# Altium schematic symbol library Microcontrollers.SchLib: 20 symbols
Pins are listed as number, name and electrical type; pins without a type are passive.

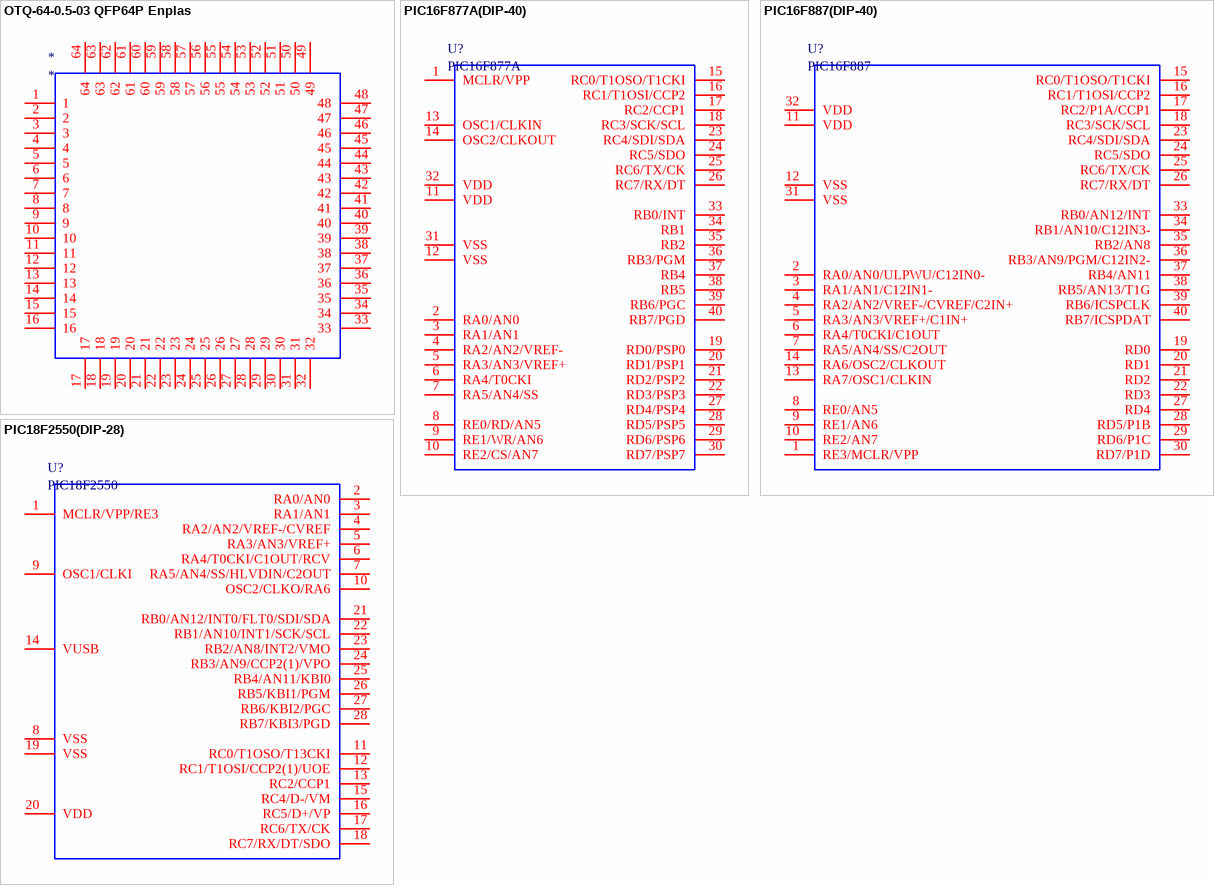
[diagram p0: symbols OTQ-64-0.5-03 QFP64P Enplas to PIC18F2550(DIP-28)]

## OTQ-64-0.5-03 QFP64P Enplas
designator *
footprint SOCKET_ENPLAS_OTQ_64-0.5-03
pins: 1, 2, 3, 4, 5, 6, 7, 8, 9, 10, 11, 12, 13, 14, 15, 16, 17, 18, 19, 20, 21, 22, 23, 24, 25, 26, 27, 28, 29, 30, 31, 32, 33, 34, 35, 36, 37, 38, 39, 40, 41, 42, 43, 44, 45, 46, 47, 48, 49, 50, 51, 52, 53, 54, 55, 56, 57, 58, 59, 60, 61, 62, 63, 64

## PIC16F877A(DIP-40)
designator U?, comment PIC16F877A
footprint DIP40_M02
pins: 1 MCLR/VPP, 2 RA0/AN0, 3 RA1/AN1, 4 RA2/AN2/VREF-, 5 RA3/AN3/VREF+, 6 RA4/T0CKI, 7 RA5/AN4/SS, 8 RE0/RD/AN5, 9 RE1/WR/AN6, 10 RE2/CS/AN7, 11 VDD, 12 VSS, 13 OSC1/CLKIN, 14 OSC2/CLKOUT, 15 RC0/T1OSO/T1CKI, 16 RC1/T1OSI/CCP2, 17 RC2/CCP1, 18 RC3/SCK/SCL, 19 RD0/PSP0, 20 RD1/PSP1, 21 RD2/PSP2, 22 RD3/PSP3, 23 RC4/SDI/SDA, 24 RC5/SDO, 25 RC6/TX/CK, 26 RC7/RX/DT, 27 RD4/PSP4, 28 RD5/PSP5, 29 RD6/PSP6, 30 RD7/PSP7, 31 VSS, 32 VDD, 33 RB0/INT, 34 RB1, 35 RB2, 36 RB3/PGM, 37 RB4, 38 RB5, 39 RB6/PGC, 40 RB7/PGD

## PIC16F887(DIP-40)
designator U?, comment PIC16F887
pins: 1 RE3/MCLR/VPP, 2 RA0/AN0/ULPWU/C12IN0-, 3 RA1/AN1/C12IN1-, 4 RA2/AN2/VREF-/CVREF/C2IN+, 5 RA3/AN3/VREF+/C1IN+, 6 RA4/T0CKI/C1OUT, 7 RA5/AN4/SS/C2OUT, 8 RE0/AN5, 9 RE1/AN6, 10 RE2/AN7, 11 VDD, 12 VSS, 13 RA7/OSC1/CLKIN, 14 RA6/OSC2/CLKOUT, 15 RC0/T1OSO/T1CKI, 16 RC1/T1OSI/CCP2, 17 RC2/P1A/CCP1, 18 RC3/SCK/SCL, 19 RD0, 20 RD1, 21 RD2, 22 RD3, 23 RC4/SDI/SDA, 24 RC5/SDO, 25 RC6/TX/CK, 26 RC7/RX/DT, 27 RD4, 28 RD5/P1B, 29 RD6/P1C, 30 RD7/P1D, 31 VSS, 32 VDD, 33 RB0/AN12/INT, 34 RB1/AN10/C12IN3-, 35 RB2/AN8, 36 RB3/AN9/PGM/C12IN2-, 37 RB4/AN11, 38 RB5/AN13/T1G, 39 RB6/ICSPCLK, 40 RB7/ICSPDAT

## PIC18F2550(DIP-28)
designator U?, comment PIC18F2550
footprint DIP28_M04
pins: 1 MCLR/VPP/RE3, 2 RA0/AN0, 3 RA1/AN1, 4 RA2/AN2/VREF-/CVREF, 5 RA3/AN3/VREF+, 6 RA4/T0CKI/C1OUT/RCV, 7 RA5/AN4/SS/HLVDIN/C2OUT, 8 VSS, 9 OSC1/CLKI, 10 OSC2/CLKO/RA6, 11 RC0/T1OSO/T13CKI, 12 RC1/T1OSI/CCP2(1)/UOE, 13 RC2/CCP1, 14 VUSB, 15 RC4/D-/VM, 16 RC5/D+/VP, 17 RC6/TX/CK, 18 RC7/RX/DT/SDO, 19 VSS, 20 VDD, 21 RB0/AN12/INT0/FLT0/SDI/SDA, 22 RB1/AN10/INT1/SCK/SCL, 23 RB2/AN8/INT2/VMO, 24 RB3/AN9/CCP2(1)/VPO, 25 RB4/AN11/KBI0, 26 RB5/KBI1/PGM, 27 RB6/KBI2/PGC, 28 RB7/KBI3/PGD

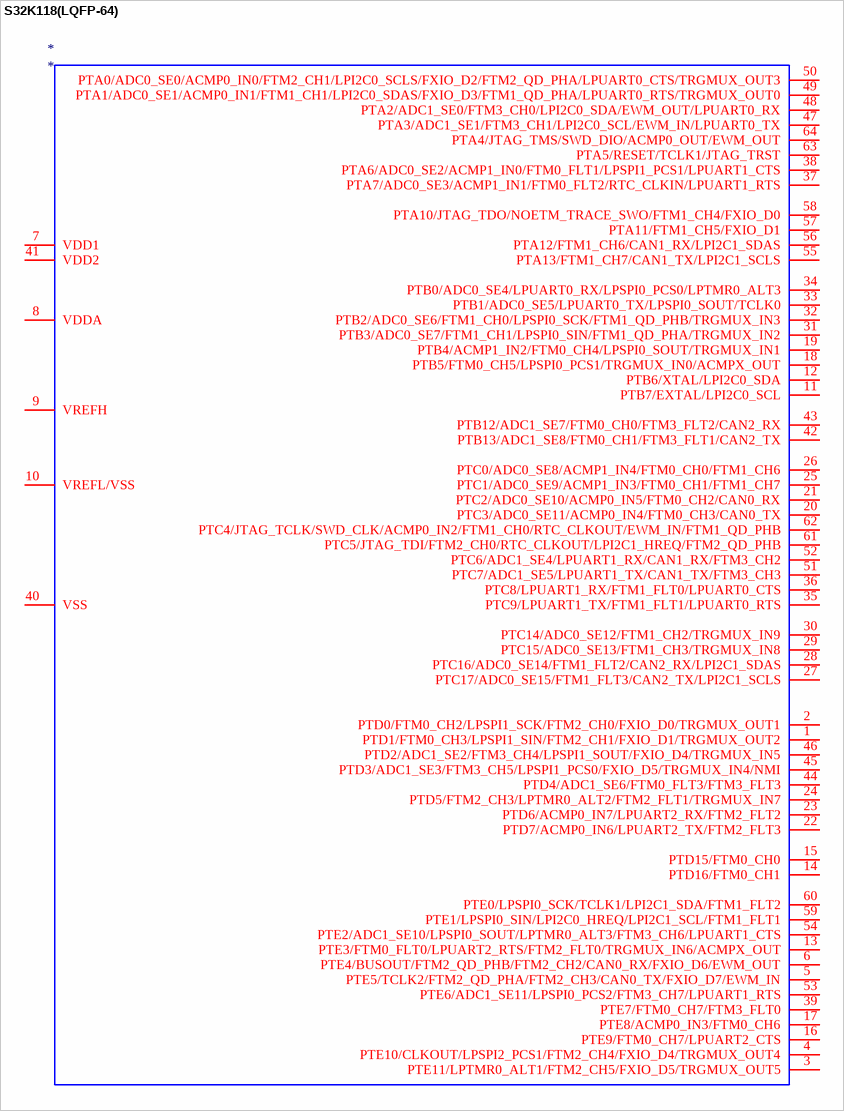
[diagram p1: symbol S32K118(LQFP-64)]

## S32K118(LQFP-64)
designator *
footprint LQFP064_FPT-64P-M03
pins: 1 PTD1/FTM0_CH3/LPSPI1_SIN/FTM2_CH1/FXIO_D1/TRGMUX_OUT2, 2 PTD0/FTM0_CH2/LPSPI1_SCK/FTM2_CH0/FXIO_D0/TRGMUX_OUT1, 3 PTE11/LPTMR0_ALT1/FTM2_CH5/FXIO_D5/TRGMUX_OUT5, 4 PTE10/CLKOUT/LPSPI2_PCS1/FTM2_CH4/FXIO_D4/TRGMUX_OUT4, 5 PTE5/TCLK2/FTM2_QD_PHA/FTM2_CH3/CAN0_TX/FXIO_D7/EWM_IN, 6 PTE4/BUSOUT/FTM2_QD_PHB/FTM2_CH2/CAN0_RX/FXIO_D6/EWM_OUT, 7 VDD1, 8 VDDA, 9 VREFH, 10 VREFL/VSS, 11 PTB7/EXTAL/LPI2C0_SCL, 12 PTB6/XTAL/LPI2C0_SDA, 13 PTE3/FTM0_FLT0/LPUART2_RTS/FTM2_FLT0/TRGMUX_IN6/ACMPX_OUT, 14 PTD16/FTM0_CH1, 15 PTD15/FTM0_CH0, 16 PTE9/FTM0_CH7/LPUART2_CTS, 17 PTE8/ACMP0_IN3/FTM0_CH6, 18 PTB5/FTM0_CH5/LPSPI0_PCS1/TRGMUX_IN0/ACMPX_OUT, 19 PTB4/ACMP1_IN2/FTM0_CH4/LPSPI0_SOUT/TRGMUX_IN1, 20 PTC3/ADC0_SE11/ACMP0_IN4/FTM0_CH3/CAN0_TX, 21 PTC2/ADC0_SE10/ACMP0_IN5/FTM0_CH2/CAN0_RX, 22 PTD7/ACMP0_IN6/LPUART2_TX/FTM2_FLT3, 23 PTD6/ACMP0_IN7/LPUART2_RX/FTM2_FLT2, 24 PTD5/FTM2_CH3/LPTMR0_ALT2/FTM2_FLT1/TRGMUX_IN7, 25 PTC1/ADC0_SE9/ACMP1_IN3/FTM0_CH1/FTM1_CH7, 26 PTC0/ADC0_SE8/ACMP1_IN4/FTM0_CH0/FTM1_CH6, 27 PTC17/ADC0_SE15/FTM1_FLT3/CAN2_TX/LPI2C1_SCLS, 28 PTC16/ADC0_SE14/FTM1_FLT2/CAN2_RX/LPI2C1_SDAS, 29 PTC15/ADC0_SE13/FTM1_CH3/TRGMUX_IN8, 30 PTC14/ADC0_SE12/FTM1_CH2/TRGMUX_IN9, 31 PTB3/ADC0_SE7/FTM1_CH1/LPSPI0_SIN/FTM1_QD_PHA/TRGMUX_IN2, 32 PTB2/ADC0_SE6/FTM1_CH0/LPSPI0_SCK/FTM1_QD_PHB/TRGMUX_IN3, 33 PTB1/ADC0_SE5/LPUART0_TX/LPSPI0_SOUT/TCLK0, 34 PTB0/ADC0_SE4/LPUART0_RX/LPSPI0_PCS0/LPTMR0_ALT3, 35 PTC9/LPUART1_TX/FTM1_FLT1/LPUART0_RTS, 36 PTC8/LPUART1_RX/FTM1_FLT0/LPUART0_CTS, 37 PTA7/ADC0_SE3/ACMP1_IN1/FTM0_FLT2/RTC_CLKIN/LPUART1_RTS, 38 PTA6/ADC0_SE2/ACMP1_IN0/FTM0_FLT1/LPSPI1_PCS1/LPUART1_CTS, 39 PTE7/FTM0_CH7/FTM3_FLT0, 40 VSS, 41 VDD2, 42 PTB13/ADC1_SE8/FTM0_CH1/FTM3_FLT1/CAN2_TX, 43 PTB12/ADC1_SE7/FTM0_CH0/FTM3_FLT2/CAN2_RX, 44 PTD4/ADC1_SE6/FTM0_FLT3/FTM3_FLT3, 45 PTD3/ADC1_SE3/FTM3_CH5/LPSPI1_PCS0/FXIO_D5/TRGMUX_IN4/NMI, 46 PTD2/ADC1_SE2/FTM3_CH4/LPSPI1_SOUT/FXIO_D4/TRGMUX_IN5, 47 PTA3/ADC1_SE1/FTM3_CH1/LPI2C0_SCL/EWM_IN/LPUART0_TX, 48 PTA2/ADC1_SE0/FTM3_CH0/LPI2C0_SDA/EWM_OUT/LPUART0_RX, 49 PTA1/ADC0_SE1/ACMP0_IN1/FTM1_CH1/LPI2C0_SDAS/FXIO_D3/FTM1_QD_PHA/LPUART0_RTS/TRGMUX_OUT0, 50 PTA0/ADC0_SE0/ACMP0_IN0/FTM2_CH1/LPI2C0_SCLS/FXIO_D2/FTM2_QD_PHA/LPUART0_CTS/TRGMUX_OUT3, 51 PTC7/ADC1_SE5/LPUART1_TX/CAN1_TX/FTM3_CH3, 52 PTC6/ADC1_SE4/LPUART1_RX/CAN1_RX/FTM3_CH2, 53 PTE6/ADC1_SE11/LPSPI0_PCS2/FTM3_CH7/LPUART1_RTS, 54 PTE2/ADC1_SE10/LPSPI0_SOUT/LPTMR0_ALT3/FTM3_CH6/LPUART1_CTS, 55 PTA13/FTM1_CH7/CAN1_TX/LPI2C1_SCLS, 56 PTA12/FTM1_CH6/CAN1_RX/LPI2C1_SDAS, 57 PTA11/FTM1_CH5/FXIO_D1, 58 PTA10/JTAG_TDO/NOETM_TRACE_SWO/FTM1_CH4/FXIO_D0, 59 PTE1/LPSPI0_SIN/LPI2C0_HREQ/LPI2C1_SCL/FTM1_FLT1, 60 PTE0/LPSPI0_SCK/TCLK1/LPI2C1_SDA/FTM1_FLT2, 61 PTC5/JTAG_TDI/FTM2_CH0/RTC_CLKOUT/LPI2C1_HREQ/FTM2_QD_PHB, 62 PTC4/JTAG_TCLK/SWD_CLK/ACMP0_IN2/FTM1_CH0/RTC_CLKOUT/EWM_IN/FTM1_QD_PHB, 63 PTA5/RESET/TCLK1/JTAG_TRST, 64 PTA4/JTAG_TMS/SWD_DIO/ACMP0_OUT/EWM_OUT

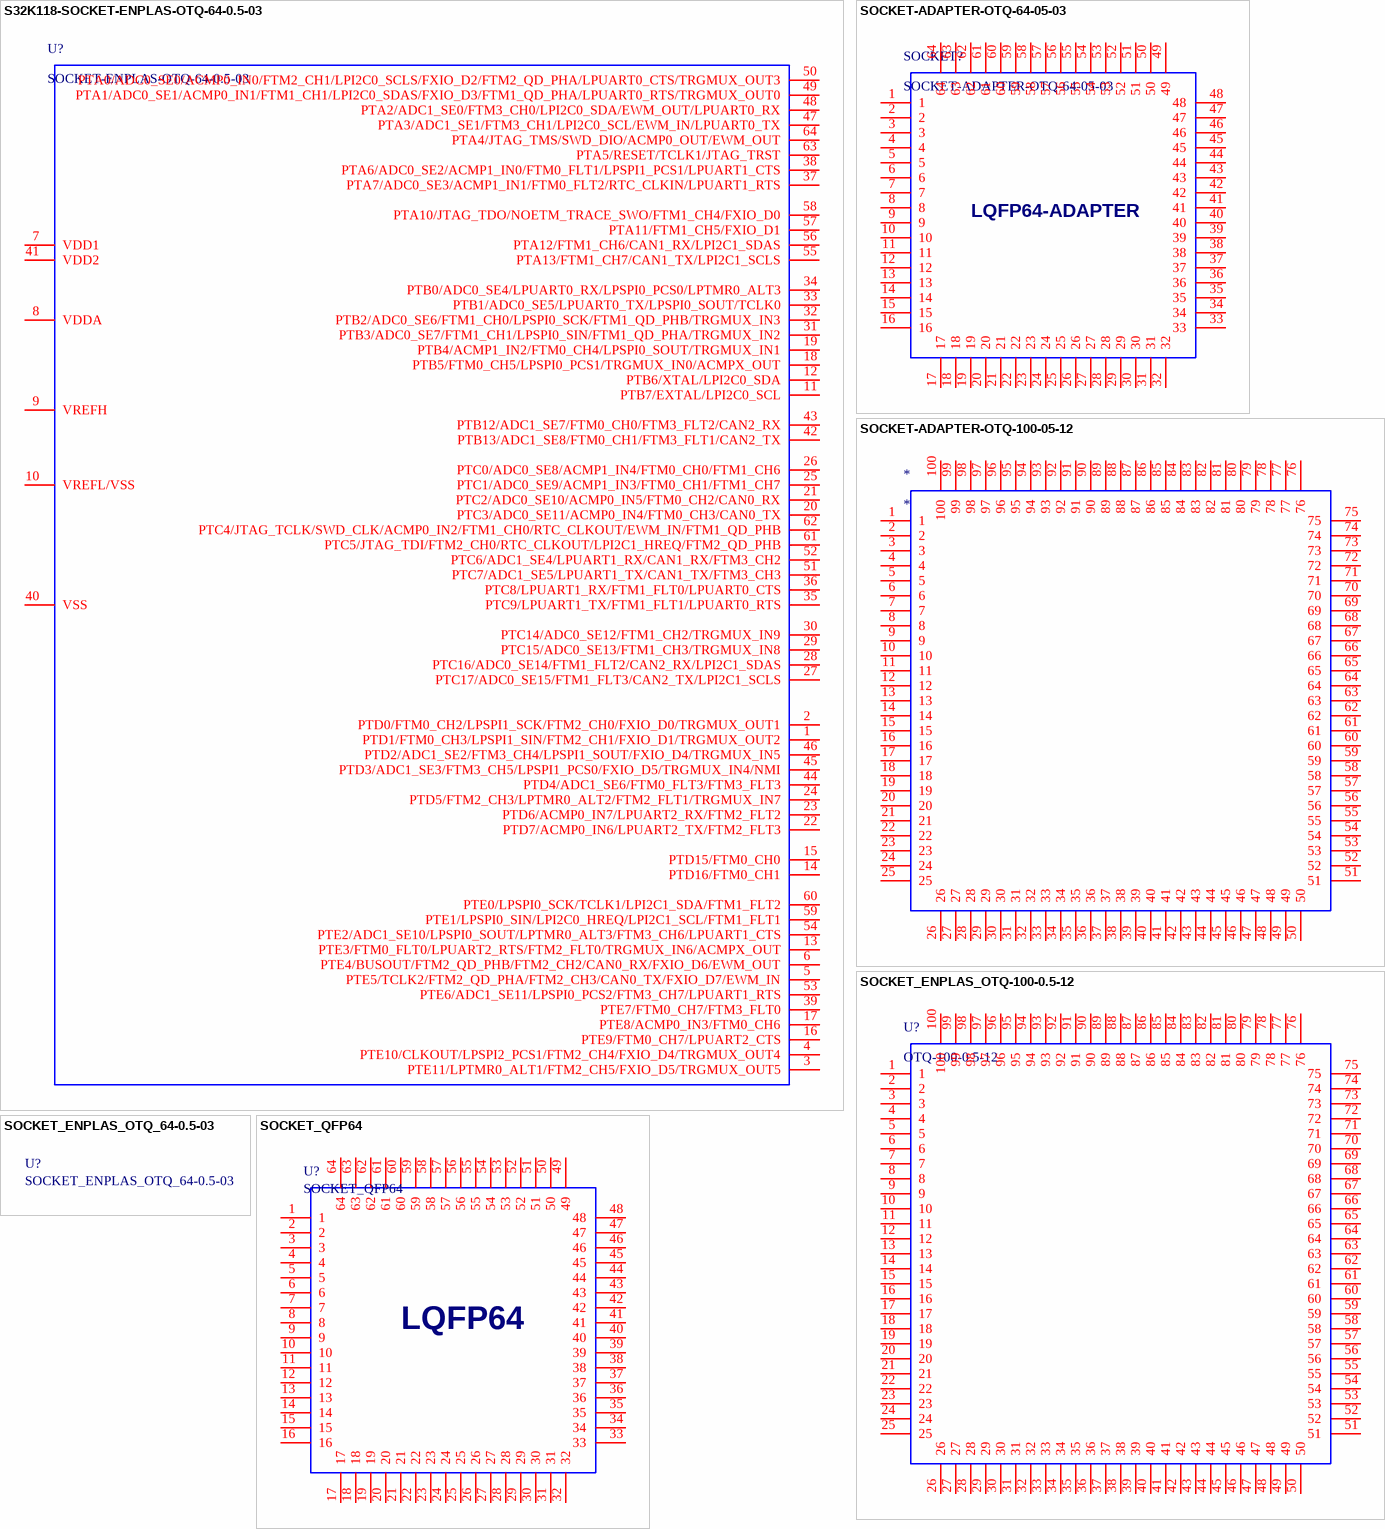
[diagram p2: symbols S32K118-SOCKET-ENPLAS-OTQ-64-0.5-03 to SOCKET_QFP64]

## S32K118-SOCKET-ENPLAS-OTQ-64-0.5-03
designator U?, comment SOCKET-ENPLAS-OTQ-64-0.5-03
footprint SOCKET-ADAPTER-OTQ-64-05-03
pins: 1 PTD1/FTM0_CH3/LPSPI1_SIN/FTM2_CH1/FXIO_D1/TRGMUX_OUT2, 2 PTD0/FTM0_CH2/LPSPI1_SCK/FTM2_CH0/FXIO_D0/TRGMUX_OUT1, 3 PTE11/LPTMR0_ALT1/FTM2_CH5/FXIO_D5/TRGMUX_OUT5, 4 PTE10/CLKOUT/LPSPI2_PCS1/FTM2_CH4/FXIO_D4/TRGMUX_OUT4, 5 PTE5/TCLK2/FTM2_QD_PHA/FTM2_CH3/CAN0_TX/FXIO_D7/EWM_IN, 6 PTE4/BUSOUT/FTM2_QD_PHB/FTM2_CH2/CAN0_RX/FXIO_D6/EWM_OUT, 7 VDD1, 8 VDDA, 9 VREFH, 10 VREFL/VSS, 11 PTB7/EXTAL/LPI2C0_SCL, 12 PTB6/XTAL/LPI2C0_SDA, 13 PTE3/FTM0_FLT0/LPUART2_RTS/FTM2_FLT0/TRGMUX_IN6/ACMPX_OUT, 14 PTD16/FTM0_CH1, 15 PTD15/FTM0_CH0, 16 PTE9/FTM0_CH7/LPUART2_CTS, 17 PTE8/ACMP0_IN3/FTM0_CH6, 18 PTB5/FTM0_CH5/LPSPI0_PCS1/TRGMUX_IN0/ACMPX_OUT, 19 PTB4/ACMP1_IN2/FTM0_CH4/LPSPI0_SOUT/TRGMUX_IN1, 20 PTC3/ADC0_SE11/ACMP0_IN4/FTM0_CH3/CAN0_TX, 21 PTC2/ADC0_SE10/ACMP0_IN5/FTM0_CH2/CAN0_RX, 22 PTD7/ACMP0_IN6/LPUART2_TX/FTM2_FLT3, 23 PTD6/ACMP0_IN7/LPUART2_RX/FTM2_FLT2, 24 PTD5/FTM2_CH3/LPTMR0_ALT2/FTM2_FLT1/TRGMUX_IN7, 25 PTC1/ADC0_SE9/ACMP1_IN3/FTM0_CH1/FTM1_CH7, 26 PTC0/ADC0_SE8/ACMP1_IN4/FTM0_CH0/FTM1_CH6, 27 PTC17/ADC0_SE15/FTM1_FLT3/CAN2_TX/LPI2C1_SCLS, 28 PTC16/ADC0_SE14/FTM1_FLT2/CAN2_RX/LPI2C1_SDAS, 29 PTC15/ADC0_SE13/FTM1_CH3/TRGMUX_IN8, 30 PTC14/ADC0_SE12/FTM1_CH2/TRGMUX_IN9, 31 PTB3/ADC0_SE7/FTM1_CH1/LPSPI0_SIN/FTM1_QD_PHA/TRGMUX_IN2, 32 PTB2/ADC0_SE6/FTM1_CH0/LPSPI0_SCK/FTM1_QD_PHB/TRGMUX_IN3, 33 PTB1/ADC0_SE5/LPUART0_TX/LPSPI0_SOUT/TCLK0, 34 PTB0/ADC0_SE4/LPUART0_RX/LPSPI0_PCS0/LPTMR0_ALT3, 35 PTC9/LPUART1_TX/FTM1_FLT1/LPUART0_RTS, 36 PTC8/LPUART1_RX/FTM1_FLT0/LPUART0_CTS, 37 PTA7/ADC0_SE3/ACMP1_IN1/FTM0_FLT2/RTC_CLKIN/LPUART1_RTS, 38 PTA6/ADC0_SE2/ACMP1_IN0/FTM0_FLT1/LPSPI1_PCS1/LPUART1_CTS, 39 PTE7/FTM0_CH7/FTM3_FLT0, 40 VSS, 41 VDD2, 42 PTB13/ADC1_SE8/FTM0_CH1/FTM3_FLT1/CAN2_TX, 43 PTB12/ADC1_SE7/FTM0_CH0/FTM3_FLT2/CAN2_RX, 44 PTD4/ADC1_SE6/FTM0_FLT3/FTM3_FLT3, 45 PTD3/ADC1_SE3/FTM3_CH5/LPSPI1_PCS0/FXIO_D5/TRGMUX_IN4/NMI, 46 PTD2/ADC1_SE2/FTM3_CH4/LPSPI1_SOUT/FXIO_D4/TRGMUX_IN5, 47 PTA3/ADC1_SE1/FTM3_CH1/LPI2C0_SCL/EWM_IN/LPUART0_TX, 48 PTA2/ADC1_SE0/FTM3_CH0/LPI2C0_SDA/EWM_OUT/LPUART0_RX, 49 PTA1/ADC0_SE1/ACMP0_IN1/FTM1_CH1/LPI2C0_SDAS/FXIO_D3/FTM1_QD_PHA/LPUART0_RTS/TRGMUX_OUT0, 50 PTA0/ADC0_SE0/ACMP0_IN0/FTM2_CH1/LPI2C0_SCLS/FXIO_D2/FTM2_QD_PHA/LPUART0_CTS/TRGMUX_OUT3, 51 PTC7/ADC1_SE5/LPUART1_TX/CAN1_TX/FTM3_CH3, 52 PTC6/ADC1_SE4/LPUART1_RX/CAN1_RX/FTM3_CH2, 53 PTE6/ADC1_SE11/LPSPI0_PCS2/FTM3_CH7/LPUART1_RTS, 54 PTE2/ADC1_SE10/LPSPI0_SOUT/LPTMR0_ALT3/FTM3_CH6/LPUART1_CTS, 55 PTA13/FTM1_CH7/CAN1_TX/LPI2C1_SCLS, 56 PTA12/FTM1_CH6/CAN1_RX/LPI2C1_SDAS, 57 PTA11/FTM1_CH5/FXIO_D1, 58 PTA10/JTAG_TDO/NOETM_TRACE_SWO/FTM1_CH4/FXIO_D0, 59 PTE1/LPSPI0_SIN/LPI2C0_HREQ/LPI2C1_SCL/FTM1_FLT1, 60 PTE0/LPSPI0_SCK/TCLK1/LPI2C1_SDA/FTM1_FLT2, 61 PTC5/JTAG_TDI/FTM2_CH0/RTC_CLKOUT/LPI2C1_HREQ/FTM2_QD_PHB, 62 PTC4/JTAG_TCLK/SWD_CLK/ACMP0_IN2/FTM1_CH0/RTC_CLKOUT/EWM_IN/FTM1_QD_PHB, 63 PTA5/RESET/TCLK1/JTAG_TRST, 64 PTA4/JTAG_TMS/SWD_DIO/ACMP0_OUT/EWM_OUT

## SOCKET-ADAPTER-OTQ-64-05-03
designator SOCKET?
footprint SOCKET-ADAPTER-OTQ-64-05-03
pins: 1, 2, 3, 4, 5, 6, 7, 8, 9, 10, 11, 12, 13, 14, 15, 16, 17, 18, 19, 20, 21, 22, 23, 24, 25, 26, 27, 28, 29, 30, 31, 32, 33, 34, 35, 36, 37, 38, 39, 40, 41, 42, 43, 44, 45, 46, 47, 48, 49, 50, 51, 52, 53, 54, 55, 56, 57, 58, 59, 60, 61, 62, 63, 64
text: LQFP64-ADAPTER

## SOCKET-ADAPTER-OTQ-100-05-12
designator *
footprint SOCKET-ADAPTER-OTQ-100-05-12
pins: 1, 2, 3, 4, 5, 6, 7, 8, 9, 10, 11, 12, 13, 14, 15, 16, 17, 18, 19, 20, 21, 22, 23, 24, 25, 26, 27, 28, 29, 30, 31, 32, 33, 34, 35, 36, 37, 38, 39, 40, 41, 42, 43, 44, 45, 46, 47, 48, 49, 50, 51, 52, 53, 54, 55, 56, 57, 58, 59, 60, 61, 62, 63, 64, 65, 66, 67, 68, 69, 70, 71, 72, 73, 74, 75, 76, 77, 78, 79, 80, 81, 82, 83, 84, 85, 86, 87, 88, 89, 90, 91, 92, 93, 94, 95, 96, 97, 98, 99, 100

## SOCKET_ENPLAS_OTQ-100-0.5-12
designator U?, comment OTQ-100-0.5-12
footprint SOCKET_ENPLAS_OTQ-100-0.5-12
pins: 1, 2, 3, 4, 5, 6, 7, 8, 9, 10, 11, 12, 13, 14, 15, 16, 17, 18, 19, 20, 21, 22, 23, 24, 25, 26, 27, 28, 29, 30, 31, 32, 33, 34, 35, 36, 37, 38, 39, 40, 41, 42, 43, 44, 45, 46, 47, 48, 49, 50, 51, 52, 53, 54, 55, 56, 57, 58, 59, 60, 61, 62, 63, 64, 65, 66, 67, 68, 69, 70, 71, 72, 73, 74, 75, 76, 77, 78, 79, 80, 81, 82, 83, 84, 85, 86, 87, 88, 89, 90, 91, 92, 93, 94, 95, 96, 97, 98, 99, 100

## SOCKET_ENPLAS_OTQ_64-0.5-03
designator U?
footprint SOCKET_ENPLAS_OTQ_64-0.5-03

## SOCKET_QFP64
designator U?
footprint SOCKET_QFP64
pins: 1, 2, 3, 4, 5, 6, 7, 8, 9, 10, 11, 12, 13, 14, 15, 16, 17, 18, 19, 20, 21, 22, 23, 24, 25, 26, 27, 28, 29, 30, 31, 32, 33, 34, 35, 36, 37, 38, 39, 40, 41, 42, 43, 44, 45, 46, 47, 48, 49, 50, 51, 52, 53, 54, 55, 56, 57, 58, 59, 60, 61, 62, 63, 64
text: LQFP64

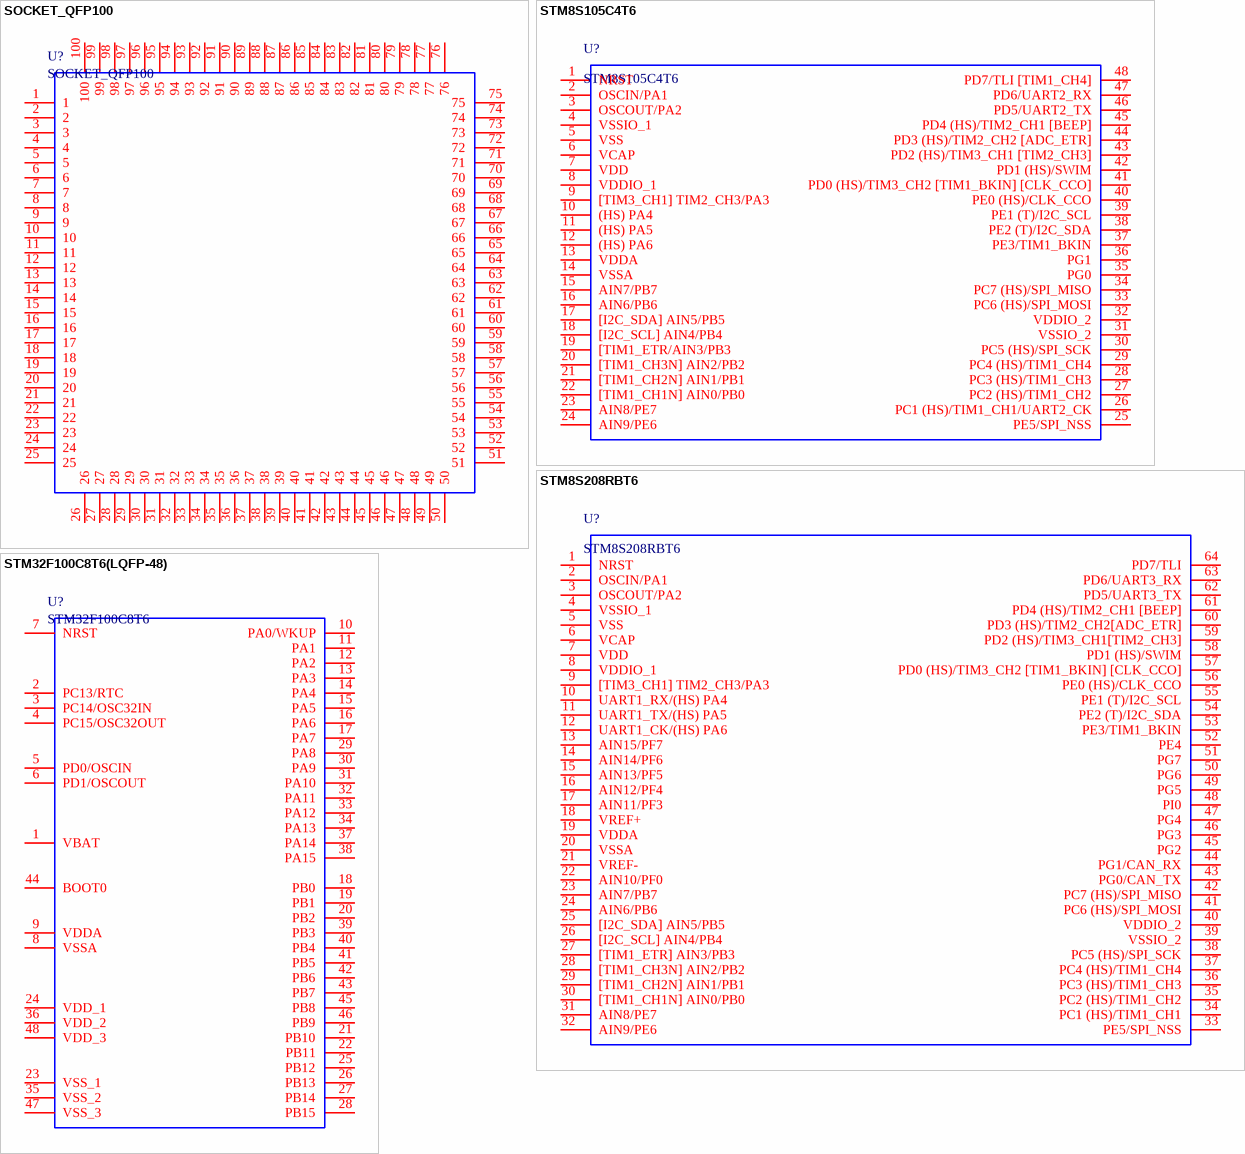
[diagram p3: symbols SOCKET_QFP100 to STM32F100C8T6(LQFP-48)]

## SOCKET_QFP100
designator U?
footprint SOCKET_QFP100
pins: 1, 2, 3, 4, 5, 6, 7, 8, 9, 10, 11, 12, 13, 14, 15, 16, 17, 18, 19, 20, 21, 22, 23, 24, 25, 26, 27, 28, 29, 30, 31, 32, 33, 34, 35, 36, 37, 38, 39, 40, 41, 42, 43, 44, 45, 46, 47, 48, 49, 50, 51, 52, 53, 54, 55, 56, 57, 58, 59, 60, 61, 62, 63, 64, 65, 66, 67, 68, 69, 70, 71, 72, 73, 74, 75, 76, 77, 78, 79, 80, 81, 82, 83, 84, 85, 86, 87, 88, 89, 90, 91, 92, 93, 94, 95, 96, 97, 98, 99, 100

## STM8S105C4T6
designator U?
footprint LQFP_48
footprint LQFP_48_L
footprint LQFP_48_M
pins: 1 NRST, 2 OSCIN/PA1, 3 OSCOUT/PA2, 4 VSSIO_1, 5 VSS, 6 VCAP, 7 VDD, 8 VDDIO_1, 9 [TIM3_CH1] TIM2_CH3/PA3, 10 (HS) PA4, 11 (HS) PA5, 12 (HS) PA6, 13 VDDA, 14 VSSA, 15 AIN7/PB7, 16 AIN6/PB6, 17 [I2C_SDA] AIN5/PB5, 18 [I2C_SCL] AIN4/PB4, 19 [TIM1_ETR/AIN3/PB3, 20 [TIM1_CH3N] AIN2/PB2, 21 [TIM1_CH2N] AIN1/PB1, 22 [TIM1_CH1N] AIN0/PB0, 23 AIN8/PE7, 24 AIN9/PE6, 25 PE5/SPI_NSS, 26 PC1 (HS)/TIM1_CH1/UART2_CK, 27 PC2 (HS)/TIM1_CH2, 28 PC3 (HS)/TIM1_CH3, 29 PC4 (HS)/TIM1_CH4, 30 PC5 (HS)/SPI_SCK, 31 VSSIO_2, 32 VDDIO_2, 33 PC6 (HS)/SPI_MOSI, 34 PC7 (HS)/SPI_MISO, 35 PG0, 36 PG1, 37 PE3/TIM1_BKIN, 38 PE2 (T)/I2C_SDA, 39 PE1 (T)/I2C_SCL, 40 PE0 (HS)/CLK_CCO, 41 PD0 (HS)/TIM3_CH2 [TIM1_BKIN] [CLK_CCO], 42 PD1 (HS)/SWIM, 43 PD2 (HS)/TIM3_CH1 [TIM2_CH3], 44 PD3 (HS)/TIM2_CH2 [ADC_ETR], 45 PD4 (HS)/TIM2_CH1 [BEEP], 46 PD5/UART2_TX, 47 PD6/UART2_RX, 48 PD7/TLI [TIM1_CH4]

## STM8S208RBT6
designator U?
footprint LQFP_64_M
pins: 1 NRST, 2 OSCIN/PA1, 3 OSCOUT/PA2, 4 VSSIO_1, 5 VSS, 6 VCAP, 7 VDD, 8 VDDIO_1, 9 [TIM3_CH1] TIM2_CH3/PA3, 10 UART1_RX/(HS) PA4, 11 UART1_TX/(HS) PA5, 12 UART1_CK/(HS) PA6, 13 AIN15/PF7, 14 AIN14/PF6, 15 AIN13/PF5, 16 AIN12/PF4, 17 AIN11/PF3, 18 VREF+, 19 VDDA, 20 VSSA, 21 VREF-, 22 AIN10/PF0, 23 AIN7/PB7, 24 AIN6/PB6, 25 [I2C_SDA] AIN5/PB5, 26 [I2C_SCL] AIN4/PB4, 27 [TIM1_ETR] AIN3/PB3, 28 [TIM1_CH3N] AIN2/PB2, 29 [TIM1_CH2N] AIN1/PB1, 30 [TIM1_CH1N] AIN0/PB0, 31 AIN8/PE7, 32 AIN9/PE6, 33 PE5/SPI_NSS, 34 PC1 (HS)/TIM1_CH1, 35 PC2 (HS)/TIM1_CH2, 36 PC3 (HS)/TIM1_CH3, 37 PC4 (HS)/TIM1_CH4, 38 PC5 (HS)/SPI_SCK, 39 VSSIO_2, 40 VDDIO_2, 41 PC6 (HS)/SPI_MOSI, 42 PC7 (HS)/SPI_MISO, 43 PG0/CAN_TX, 44 PG1/CAN_RX, 45 PG2, 46 PG3, 47 PG4, 48 PI0, 49 PG5, 50 PG6, 51 PG7, 52 PE4, 53 PE3/TIM1_BKIN, 54 PE2 (T)/I2C_SDA, 55 PE1 (T)/I2C_SCL, 56 PE0 (HS)/CLK_CCO, 57 PD0 (HS)/TIM3_CH2 [TIM1_BKIN] [CLK_CCO], 58 PD1 (HS)/SWIM, 59 PD2 (HS)/TIM3_CH1[TIM2_CH3], 60 PD3 (HS)/TIM2_CH2[ADC_ETR], 61 PD4 (HS)/TIM2_CH1 [BEEP], 62 PD5/UART3_TX, 63 PD6/UART3_RX, 64 PD7/TLI

## STM32F100C8T6(LQFP-48)
designator U?, comment STM32F100C8T6
footprint LQFP048_FPT-48P-M05
pins: 1 VBAT, 2 PC13/RTC, 3 PC14/OSC32IN, 4 PC15/OSC32OUT, 5 PD0/OSCIN, 6 PD1/OSCOUT, 7 NRST, 8 VSSA, 9 VDDA, 10 PA0/WKUP, 11 PA1, 12 PA2, 13 PA3, 14 PA4, 15 PA5, 16 PA6, 17 PA7, 18 PB0, 19 PB1, 20 PB2, 21 PB10, 22 PB11, 23 VSS_1, 24 VDD_1, 25 PB12, 26 PB13, 27 PB14, 28 PB15, 29 PA8, 30 PA9, 31 PA10, 32 PA11, 33 PA12, 34 PA13, 35 VSS_2, 36 VDD_2, 37 PA14, 38 PA15, 39 PB3, 40 PB4, 41 PB5, 42 PB6, 43 PB7, 44 BOOT0, 45 PB8, 46 PB9, 47 VSS_3, 48 VDD_3

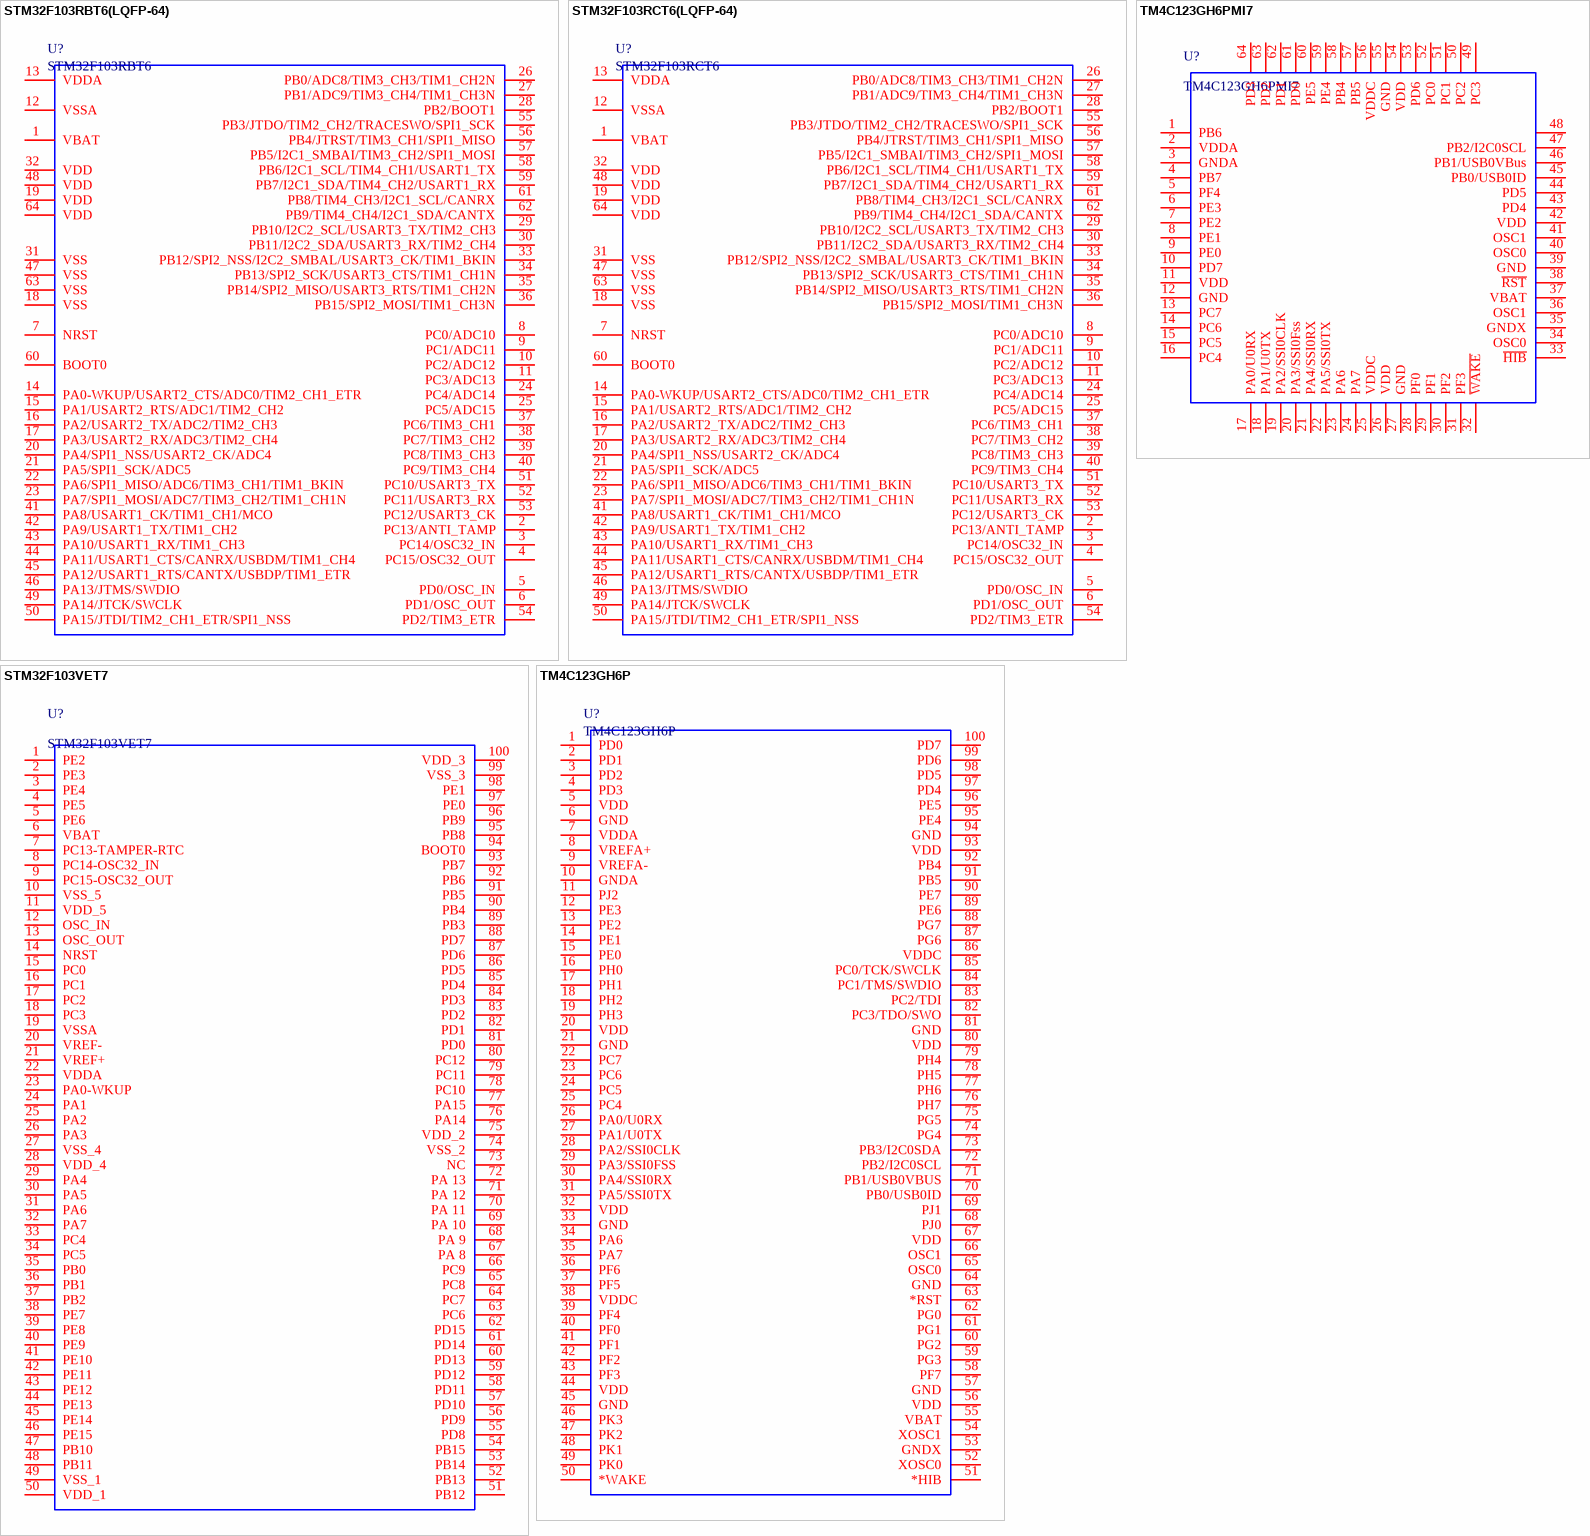
[diagram p4: symbols STM32F103RBT6(LQFP-64) to TM4C123GH6PMI7]

## STM32F103RBT6(LQFP-64)
designator U?, comment STM32F103RBT6
footprint LQFP064_FPT-64P-M03
pins: 1 VBAT, 2 PC13/ANTI_TAMP, 3 PC14/OSC32_IN, 4 PC15/OSC32_OUT, 5 PD0/OSC_IN, 6 PD1/OSC_OUT, 7 NRST, 8 PC0/ADC10, 9 PC1/ADC11, 10 PC2/ADC12, 11 PC3/ADC13, 12 VSSA, 13 VDDA, 14 PA0-WKUP/USART2_CTS/ADC0/TIM2_CH1_ETR, 15 PA1/USART2_RTS/ADC1/TIM2_CH2, 16 PA2/USART2_TX/ADC2/TIM2_CH3, 17 PA3/USART2_RX/ADC3/TIM2_CH4, 18 VSS, 19 VDD, 20 PA4/SPI1_NSS/USART2_CK/ADC4, 21 PA5/SPI1_SCK/ADC5, 22 PA6/SPI1_MISO/ADC6/TIM3_CH1/TIM1_BKIN, 23 PA7/SPI1_MOSI/ADC7/TIM3_CH2/TIM1_CH1N, 24 PC4/ADC14, 25 PC5/ADC15, 26 PB0/ADC8/TIM3_CH3/TIM1_CH2N, 27 PB1/ADC9/TIM3_CH4/TIM1_CH3N, 28 PB2/BOOT1, 29 PB10/I2C2_SCL/USART3_TX/TIM2_CH3, 30 PB11/I2C2_SDA/USART3_RX/TIM2_CH4, 31 VSS, 32 VDD, 33 PB12/SPI2_NSS/I2C2_SMBAL/USART3_CK/TIM1_BKIN, 34 PB13/SPI2_SCK/USART3_CTS/TIM1_CH1N, 35 PB14/SPI2_MISO/USART3_RTS/TIM1_CH2N, 36 PB15/SPI2_MOSI/TIM1_CH3N, 37 PC6/TIM3_CH1, 38 PC7/TIM3_CH2, 39 PC8/TIM3_CH3, 40 PC9/TIM3_CH4, 41 PA8/USART1_CK/TIM1_CH1/MCO, 42 PA9/USART1_TX/TIM1_CH2, 43 PA10/USART1_RX/TIM1_CH3, 44 PA11/USART1_CTS/CANRX/USBDM/TIM1_CH4, 45 PA12/USART1_RTS/CANTX/USBDP/TIM1_ETR, 46 PA13/JTMS/SWDIO, 47 VSS, 48 VDD, 49 PA14/JTCK/SWCLK, 50 PA15/JTDI/TIM2_CH1_ETR/SPI1_NSS, 51 PC10/USART3_TX, 52 PC11/USART3_RX, 53 PC12/USART3_CK, 54 PD2/TIM3_ETR, 55 PB3/JTDO/TIM2_CH2/TRACESWO/SPI1_SCK, 56 PB4/JTRST/TIM3_CH1/SPI1_MISO, 57 PB5/I2C1_SMBAI/TIM3_CH2/SPI1_MOSI, 58 PB6/I2C1_SCL/TIM4_CH1/USART1_TX, 59 PB7/I2C1_SDA/TIM4_CH2/USART1_RX, 60 BOOT0, 61 PB8/TIM4_CH3/I2C1_SCL/CANRX, 62 PB9/TIM4_CH4/I2C1_SDA/CANTX, 63 VSS, 64 VDD

## STM32F103RCT6(LQFP-64)
designator U?, comment STM32F103RCT6
pins: 1 VBAT, 2 PC13/ANTI_TAMP, 3 PC14/OSC32_IN, 4 PC15/OSC32_OUT, 5 PD0/OSC_IN, 6 PD1/OSC_OUT, 7 NRST, 8 PC0/ADC10, 9 PC1/ADC11, 10 PC2/ADC12, 11 PC3/ADC13, 12 VSSA, 13 VDDA, 14 PA0-WKUP/USART2_CTS/ADC0/TIM2_CH1_ETR, 15 PA1/USART2_RTS/ADC1/TIM2_CH2, 16 PA2/USART2_TX/ADC2/TIM2_CH3, 17 PA3/USART2_RX/ADC3/TIM2_CH4, 18 VSS, 19 VDD, 20 PA4/SPI1_NSS/USART2_CK/ADC4, 21 PA5/SPI1_SCK/ADC5, 22 PA6/SPI1_MISO/ADC6/TIM3_CH1/TIM1_BKIN, 23 PA7/SPI1_MOSI/ADC7/TIM3_CH2/TIM1_CH1N, 24 PC4/ADC14, 25 PC5/ADC15, 26 PB0/ADC8/TIM3_CH3/TIM1_CH2N, 27 PB1/ADC9/TIM3_CH4/TIM1_CH3N, 28 PB2/BOOT1, 29 PB10/I2C2_SCL/USART3_TX/TIM2_CH3, 30 PB11/I2C2_SDA/USART3_RX/TIM2_CH4, 31 VSS, 32 VDD, 33 PB12/SPI2_NSS/I2C2_SMBAL/USART3_CK/TIM1_BKIN, 34 PB13/SPI2_SCK/USART3_CTS/TIM1_CH1N, 35 PB14/SPI2_MISO/USART3_RTS/TIM1_CH2N, 36 PB15/SPI2_MOSI/TIM1_CH3N, 37 PC6/TIM3_CH1, 38 PC7/TIM3_CH2, 39 PC8/TIM3_CH3, 40 PC9/TIM3_CH4, 41 PA8/USART1_CK/TIM1_CH1/MCO, 42 PA9/USART1_TX/TIM1_CH2, 43 PA10/USART1_RX/TIM1_CH3, 44 PA11/USART1_CTS/CANRX/USBDM/TIM1_CH4, 45 PA12/USART1_RTS/CANTX/USBDP/TIM1_ETR, 46 PA13/JTMS/SWDIO, 47 VSS, 48 VDD, 49 PA14/JTCK/SWCLK, 50 PA15/JTDI/TIM2_CH1_ETR/SPI1_NSS, 51 PC10/USART3_TX, 52 PC11/USART3_RX, 53 PC12/USART3_CK, 54 PD2/TIM3_ETR, 55 PB3/JTDO/TIM2_CH2/TRACESWO/SPI1_SCK, 56 PB4/JTRST/TIM3_CH1/SPI1_MISO, 57 PB5/I2C1_SMBAI/TIM3_CH2/SPI1_MOSI, 58 PB6/I2C1_SCL/TIM4_CH1/USART1_TX, 59 PB7/I2C1_SDA/TIM4_CH2/USART1_RX, 60 BOOT0, 61 PB8/TIM4_CH3/I2C1_SCL/CANRX, 62 PB9/TIM4_CH4/I2C1_SDA/CANTX, 63 VSS, 64 VDD

## STM32F103VET7
designator U?
footprint LQFP_100_M
pins: 1 PE2, 2 PE3, 3 PE4, 4 PE5, 5 PE6, 6 VBAT, 7 PC13-TAMPER-RTC, 8 PC14-OSC32_IN, 9 PC15-OSC32_OUT, 10 VSS_5, 11 VDD_5, 12 OSC_IN, 13 OSC_OUT, 14 NRST, 15 PC0, 16 PC1, 17 PC2, 18 PC3, 19 VSSA, 20 VREF-, 21 VREF+, 22 VDDA, 23 PA0-WKUP, 24 PA1, 25 PA2, 26 PA3, 27 VSS_4, 28 VDD_4, 29 PA4, 30 PA5, 31 PA6, 32 PA7, 33 PC4, 34 PC5, 35 PB0, 36 PB1, 37 PB2, 38 PE7, 39 PE8, 40 PE9, 41 PE10, 42 PE11, 43 PE12, 44 PE13, 45 PE14, 46 PE15, 47 PB10, 48 PB11, 49 VSS_1, 50 VDD_1, 51 PB12, 52 PB13, 53 PB14, 54 PB15, 55 PD8, 56 PD9, 57 PD10, 58 PD11, 59 PD12, 60 PD13, 61 PD14, 62 PD15, 63 PC6, 64 PC7, 65 PC8, 66 PC9, 67 PA 8, 68 PA 9, 69 PA 10, 70 PA 11, 71 PA 12, 72 PA 13, 73 NC, 74 VSS_2, 75 VDD_2, 76 PA14, 77 PA15, 78 PC10, 79 PC11, 80 PC12, 81 PD0, 82 PD1, 83 PD2, 84 PD3, 85 PD4, 86 PD5, 87 PD6, 88 PD7, 89 PB3, 90 PB4, 91 PB5, 92 PB6, 93 PB7, 94 BOOT0, 95 PB8, 96 PB9, 97 PE0, 98 PE1, 99 VSS_3, 100 VDD_3

## TM4C123GH6P
designator U?
footprint LQFP100_FPT-100P-M05
footprint LQFP_100_M
pins: 1 PD0, 2 PD1, 3 PD2, 4 PD3, 5 VDD, 6 GND, 7 VDDA, 8 VREFA+, 9 VREFA-, 10 GNDA, 11 PJ2, 12 PE3, 13 PE2, 14 PE1, 15 PE0, 16 PH0, 17 PH1, 18 PH2, 19 PH3, 20 VDD, 21 GND, 22 PC7, 23 PC6, 24 PC5, 25 PC4, 26 PA0/U0RX, 27 PA1/U0TX, 28 PA2/SSI0CLK, 29 PA3/SSI0FSS, 30 PA4/SSI0RX, 31 PA5/SSI0TX, 32 VDD, 33 GND, 34 PA6, 35 PA7, 36 PF6, 37 PF5, 38 VDDC, 39 PF4, 40 PF0, 41 PF1, 42 PF2, 43 PF3, 44 VDD, 45 GND, 46 PK3, 47 PK2, 48 PK1, 49 PK0, 50 *WAKE, 51 *HIB, 52 XOSC0, 53 GNDX, 54 XOSC1, 55 VBAT, 56 VDD, 57 GND, 58 PF7, 59 PG3, 60 PG2, 61 PG1, 62 PG0, 63 *RST, 64 GND, 65 OSC0, 66 OSC1, 67 VDD, 68 PJ0, 69 PJ1, 70 PB0/USB0ID, 71 PB1/USB0VBUS, 72 PB2/I2C0SCL, 73 PB3/I2C0SDA, 74 PG4, 75 PG5, 76 PH7, 77 PH6, 78 PH5, 79 PH4, 80 VDD, 81 GND, 82 PC3/TDO/SWO, 83 PC2/TDI, 84 PC1/TMS/SWDIO, 85 PC0/TCK/SWCLK, 86 VDDC, 87 PG6, 88 PG7, 89 PE6, 90 PE7, 91 PB5, 92 PB4, 93 VDD, 94 GND, 95 PE4, 96 PE5, 97 PD4, 98 PD5, 99 PD6, 100 PD7

## TM4C123GH6PMI7
designator U?
footprint SOCKET-ADAPTER-OTQ-64-05-03
pins: 1 PB6, 2 VDDA, 3 GNDA, 4 PB7, 5 PF4, 6 PE3, 7 PE2, 8 PE1, 9 PE0, 10 PD7, 11 VDD, 12 GND, 13 PC7, 14 PC6, 15 PC5, 16 PC4, 17 PA0/U0RX, 18 PA1/U0TX, 19 PA2/SSI0CLK, 20 PA3/SSI0Fss, 21 PA4/SSI0RX, 22 PA5/SSI0TX, 23 PA6, 24 PA7, 25 VDDC, 26 VDD, 27 GND, 28 PF0, 29 PF1, 30 PF2, 31 PF3, 32 ~{WAKE}, 33 ~{HIB}, 34 OSC0, 35 GNDX, 36 OSC1, 37 VBAT, 38 ~{RST}, 39 GND, 40 OSC0, 41 OSC1, 42 VDD, 43 PD4, 44 PD5, 45 PB0/USB0ID, 46 PB1/USB0VBus, 47 PB2/I2C0SCL, 48  , 49 PC3, 50 PC2, 51 PC1, 52 PC0, 53 PD6, 54 VDD, 55 GND, 56 VDDC, 57 PB5, 58 PB4, 59 PE4, 60 PE5, 61 PD0, 62 PD1, 63 PD2, 64 PD3